# EAGLE library part 9DBL04*2 (library Renesas)
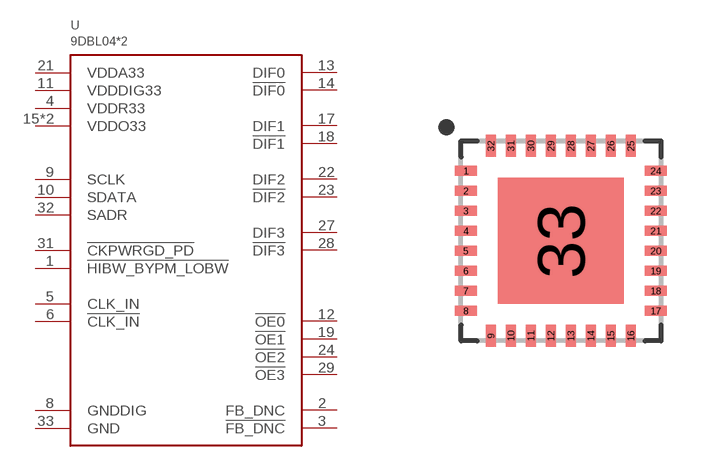
[diagram p9: symbol with the pads of QFN32; footprint QFN32]

Designator prefix U

## 9DBL0442, 9DBL0452  [QFN32]
1  !HIBW_BYPM_LOBW
2  FB_DNC
3  !FB_DNC
4  VDDR33
5  CLK_IN
6  !CLK_IN
8  GNDDIG
9  SCLK
10  SDATA
11  VDDDIG33
12  !OE0
13  DIF0
14  !DIF0
15  VDDO33
17  DIF1
18  !DIF1
19  !OE1
21  VDDA33
22  DIF2
23  !DIF2
24  !OE2
25  VDDO33
27  DIF3
28  !DIF3
29  !OE3
31  !CKPWRGD_PD
32  SADR
33  GND

## Footprint QFN32 (pad centres in mm)
smd 0.55 x 0.25: 1 -2.375,1.75; 2 -2.375,1.25; 3 -2.375,0.75; 4 -2.375,0.25; 5 -2.375,-0.25; 6 -2.375,-0.75; 7 -2.375,-1.25; 8 -2.375,-1.75; 17 2.375,-1.75; 18 2.375,-1.25; 19 2.375,-0.75; 20 2.375,-0.25; 21 2.375,0.25; 22 2.375,0.75; 23 2.375,1.25; 24 2.375,1.75
smd 0.25 x 0.55: 9 -1.75,-2.375; 10 -1.25,-2.375; 11 -0.75,-2.375; 12 -0.25,-2.375; 13 0.25,-2.375; 14 0.75,-2.375; 15 1.25,-2.375; 16 1.75,-2.375; 25 1.75,2.375; 26 1.25,2.375; 27 0.75,2.375; 28 0.25,2.375; 29 -0.25,2.375; 30 -0.75,2.375; 31 -1.25,2.375; 32 -1.75,2.375
smd 3.15 x 3.15: 33 0,0